# EAGLE library part ICM7556MJD (library Intersil_By_element14_Batch_1)
General Purpose Timers
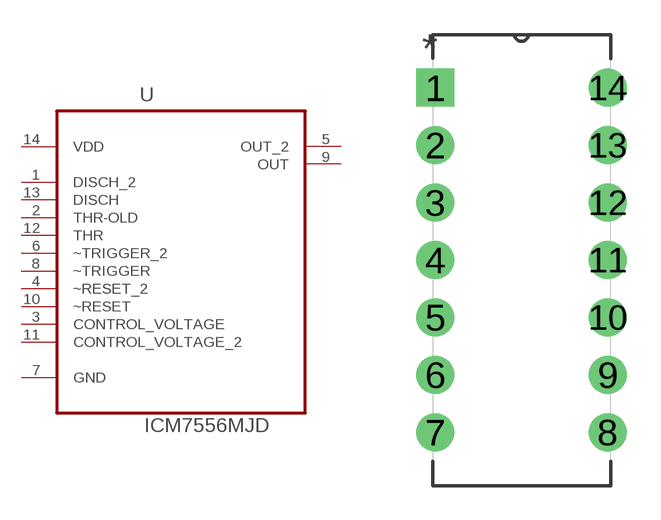
[diagram p212: symbol with the pads of DIP254P762X508-14; footprint DIP254P762X508-14]

Designator prefix U

## ICM7556MJD (MPN: ICM7556MJD; OC_FARNELL: 1652272; OC_NEWARK: 06F7576; PACKAGE: DIP-14; SUPPLIER: INTERSIL)  [DIP254P762X508-14]
1  DISCH_2  in
2  THR-OLD  in
3  CONTROL_VOLTAGE  in
4  ~RESET_2  in
5  OUT_2  out
6  ~TRIGGER_2  in
7  GND  pas
8  ~TRIGGER  in
9  OUT  out
10  ~RESET  in
11  CONTROL_VOLTAGE_2  in
12  THR  in
13  DISCH  in
14  VDD  pwr

## Footprint DIP254P762X508-14 (pad centres in mm)
drill 1.118 square: 1 -7.62,15.24
drill 1.118: 2 -7.62,12.7; 3 -7.62,10.16; 4 -7.62,7.62; 5 -7.62,5.08; 6 -7.62,2.54; 7 -7.62,0; 8 0,0; 9 0,2.54; 10 0,5.08; 11 0,7.62; 12 0,10.16; 13 0,12.7; 14 0,15.24